# EAGLE library part TCA0372DM2 (library ads4)
TCA0372 power op-amp SMT
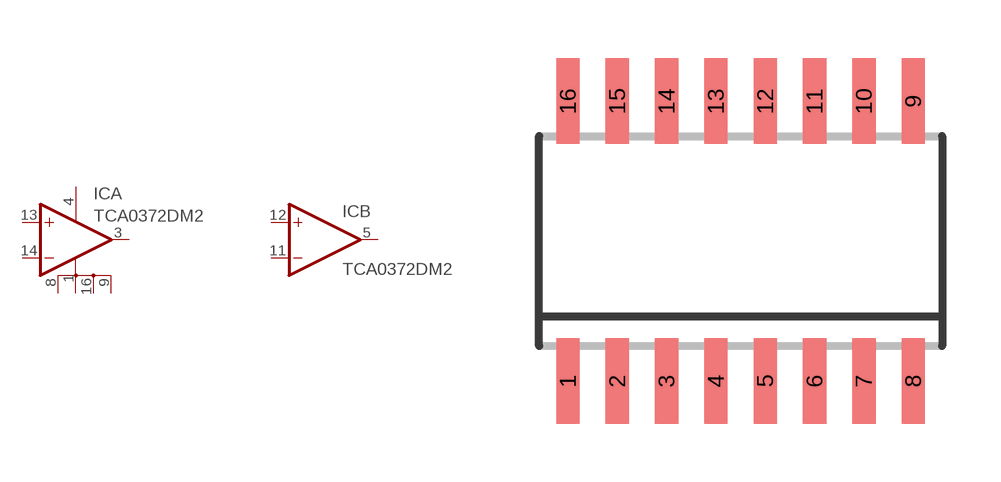
[diagram p105: symbol with the pads of SO16; footprint SO16]

Designator prefix IC; gates A=OPAMP1+4- B=OPAMP

## TCA0372DM2  [SO16]
1  A:V-  pwr
3  A:OUT  out
4  A:V+  pwr
5  B:OUT  out
8  A:V-  pwr
9  A:V-  pwr
11  B:-IN  in
12  B:+IN  in
13  A:+IN  in
14  A:-IN  in
16  A:V-  pwr

## Footprint SO16 (pad centres in mm)
SO-16 narrow package (5.3mm wide)
smd 0.6 x 2.2: 1 -4.445,-3.6; 2 -3.175,-3.6; 3 -1.905,-3.6; 4 -0.635,-3.6; 5 0.635,-3.6; 6 1.905,-3.6; 7 3.175,-3.6; 8 4.445,-3.6; 9 4.445,3.6; 10 3.175,3.6; 11 1.905,3.6; 12 0.635,3.6; 13 -0.635,3.6; 14 -1.905,3.6; 15 -3.175,3.6; 16 -4.445,3.6